# Altium footprint library ECE299_PCB.PcbLib: 24 footprints (part 1 of 2)
Each footprint in its own frame and in the unit in brackets; x right, y up, seen from the top. Pads: shape width x height; smd on the part's side, far side on the other; paste and mask are expansions set on the pad; w line width, h text height; cw(c..) or ccw(c..) is an arc to the next point about the centre after c.
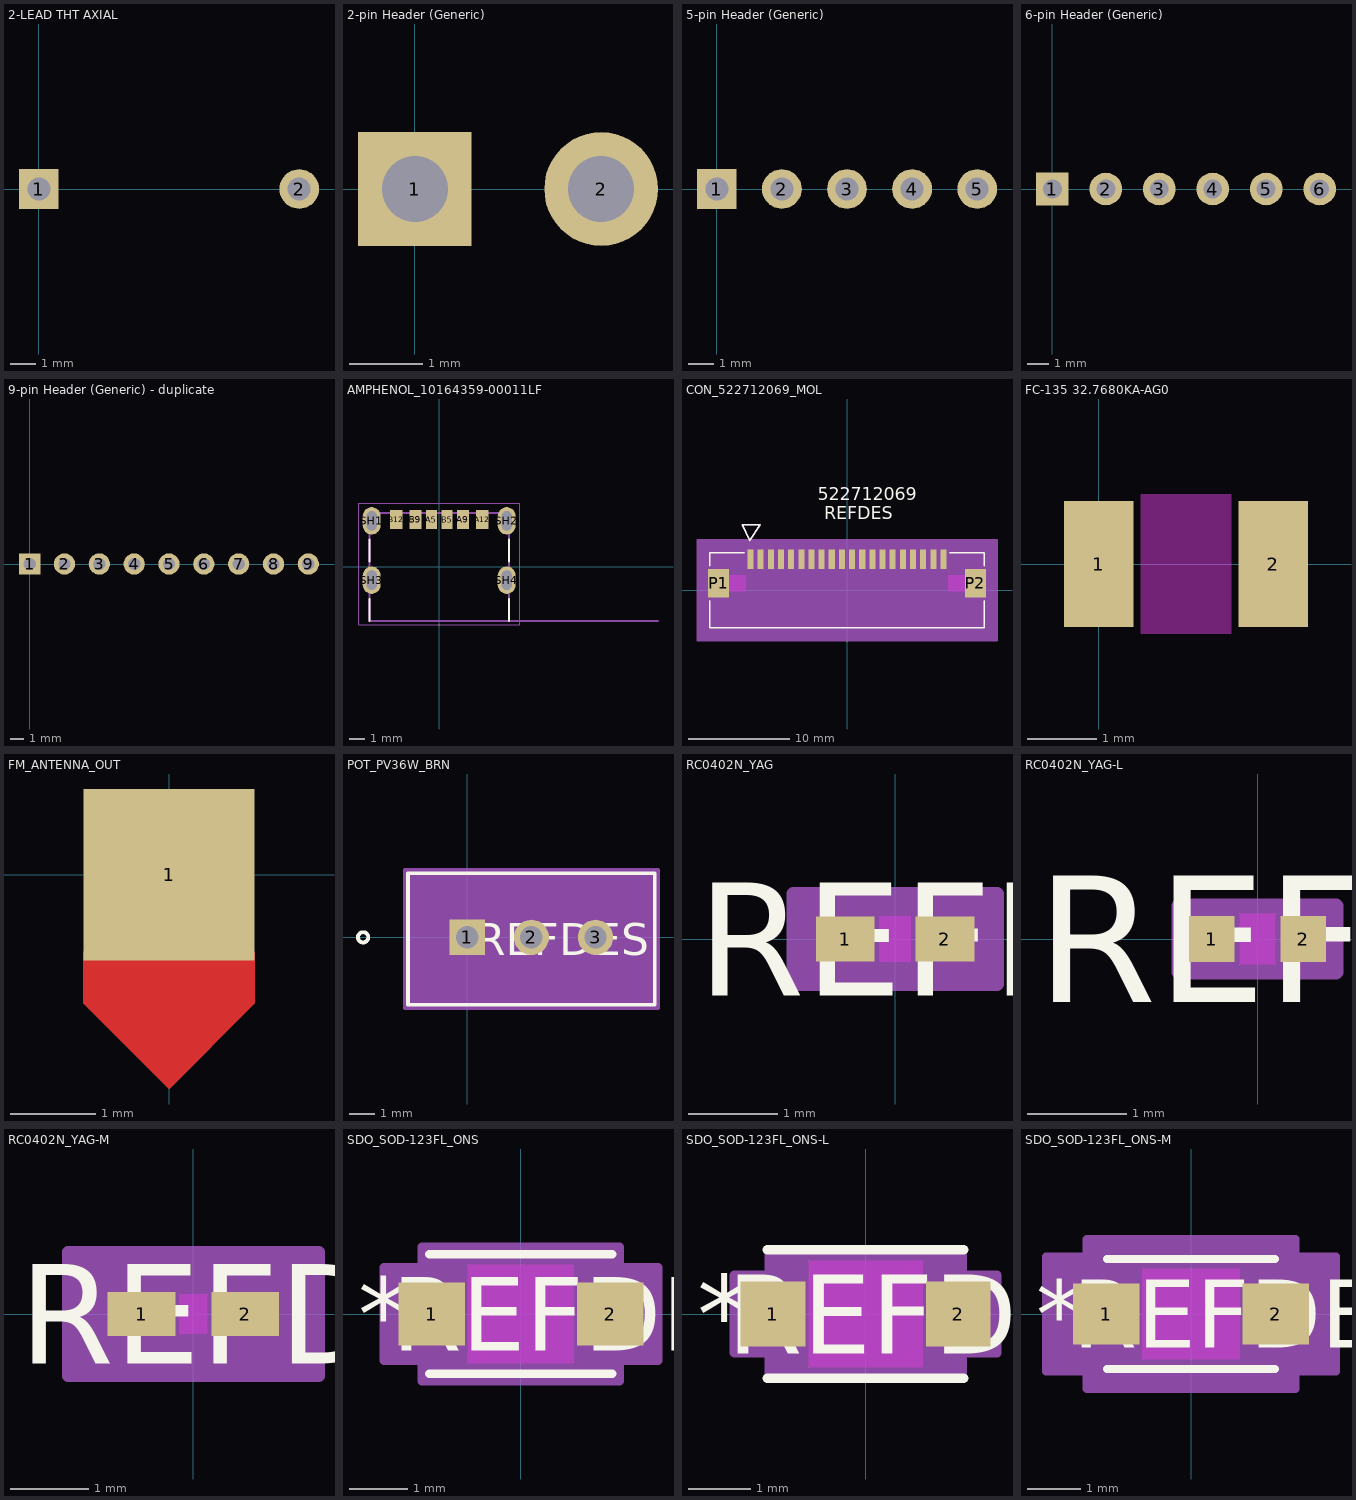
[diagram p0: the footprints below, top view; thin cyan lines are the x and y axes]

## 2-LEAD THT AXIAL [mm] "2"
pads (2):
  rect 1.55x1.55 hole 0.9: 1(0,0)
  round 1.55 hole 0.9: 2(10.16,0)

## 2-pin Header (Generic) [mm] "2 THT pads for generic headers."
pads (2):
  rect 1.55x1.55 hole 0.9: 1(0,0)
  round 1.55 hole 0.9: 2(2.54,0)

## 5-pin Header (Generic) [mm] "5 THT pads for generic headers."
pads (5):
  rect 1.55x1.55 hole 0.9: 1(0,0)
  round 1.55 hole 0.9: 2(2.54,0) 3(5.08,0) 4(7.62,0) 5(10.16,0)

## 6-pin Header (Generic) [mm] "6 THT pads for generic headers. Also used for SD card reader breakout board."
pads (6):
  rect 1.55x1.55 hole 0.9: 1(0,0)
  round 1.55 hole 0.9: 2(2.54,0) 3(5.08,0) 4(7.62,0) 5(10.16,0) 6(12.7,0)

## 9-pin Header (Generic) - duplicate [mm] "9 THT pads for generic headers. Also used for SD card reader breakout board."
pads (9):
  rect 1.55x1.55 hole 0.9: 1(0,0)
  round 1.55 hole 0.9: 2(2.54,0) 3(5.08,0) 4(7.62,0) 5(10.16,0) 6(12.7,0) 7(15.24,0) 8(17.78,0) 9(20.32,0)

## AMPHENOL_10164359-00011LF [mm]
height 3.26
pads (10):
  rect 0.7x1.2 smd: A5(-0.5,3.03) B5(0.5,3.03)
  rect 0.76x1.2 smd: A9(1.52,3.03) B9(-1.52,3.03)
  rect 0.8x1.2 smd: A12(2.75,3.03) B12(-2.75,3.03)
  oval 1.15x1.75 hole 0.65 slot 1.25 at 90 deg: SH1(-4.32,2.95) SH2(4.32,2.95) SH3(-4.32,-0.85) SH4(4.32,-0.85)
Top Overlay:
  lines w0.127: -4.47,-3.45 -4.47,-2.045 ; -4.47,0.345 -4.47,1.755 ; 4.47,-3.45 4.47,-2.045 ; 4.47,0.345 4.47,1.755
Mechanical 13:
  lines w0.127: 14,-3.45 4.47,-3.45 ; 4.47,-3.45 -4.47,-3.45 -4.47,3.45 4.47,3.45 4.47,-3.45
  text "PCB EDGE" at 5.5,-3.1 h1.27
Mechanical 15:
  lines w0.05: -5.145,-3.7 5.145,-3.7 5.145,4.075 -5.145,4.075 -5.145,-3.7
3D body "step_temp.STEP": height 3.26, standoff -0.9, extent -4.47,-3.45 4.47,3.45

## CON_522712069_MOL [mm]
pads (22):
  rect 0.6x1.9 smd paste+0 mask+0.076: 1(-9.5,3.05) 2(-8.5,3.05) 3(-7.5,3.05) 4(-6.5,3.05) 5(-5.5,3.05) 6(-4.5,3.05) 7(-3.5,3.05) 8(-2.5,3.05) 9(-1.5,3.05) 10(-0.5,3.05) 11(0.5,3.05) 12(1.5,3.05) 13(2.5,3.05) 14(3.5,3.05) 15(4.5,3.05) 16(5.5,3.05) 17(6.5,3.05) 18(7.5,3.05) 19(8.5,3.05) 20(9.5,3.05)
  rect 2.1x2.8 smd paste+0 mask+0.076: P1(-12.65,0.7) P2(12.65,0.7)
Top Overlay:
  lines w0.152: -13.5,-1.018 -13.5,-3.7 13.5,-3.7 13.5,-1.018 ; -13.5,2.417 -13.5,3.7 -10.117,3.7 ; 10.118,3.7 13.5,3.7 13.5,2.417 ; -10.325,6.479 -8.547,6.479 -9.563,4.904 -10.325,6.479
  text "REFDES" at -2.222,6.985 h1.27
  text "522712069" at -2.857,8.89 h1.27
Keep-Out Layer:
  region: -9.95,-0.1 -9.95,1.5 -11.6,1.5 -11.6,-0.1
  region: 9.95,-0.1 9.95,1.5 11.6,1.5 11.6,-0.1
Mechanical 13:
  lines w0.127: -13.5,-3.7 13.5,-3.7 13.5,3.7 -13.5,3.7 -13.5,-3.7 ; -10.325,6.479 -8.547,6.479 -9.563,4.904 -10.325,6.479
  text "522712069" at -2.857,8.89 h1.27
  text "RefDes2" at -2.222,6.985 h1.27
Mechanical 15:
  region: 14.77,4.97 -14.77,4.97 -14.77,-4.97 14.77,-4.97
  lines w0.127: -14.77,-4.97 -14.77,4.97 14.77,4.97 14.77,-4.97 -14.77,-4.97

## FC-135 32.7680KA-AG0 [mm]
pads (2):
  rect 1x1.8 smd paste+0 mask+0.076: 1(0,0) 2(2.5,0)
Top Layer keep-out:
  rectangle: 0.6,-1 1.9,1

## FM_ANTENNA_OUT [mm] "Intended for board-edge mounting"
pads (1):
  rect 2x2 smd paste+0 mask+0.3: 1(0,0)
Top Layer:
  region: -1,-0.9 -1,-1.5 0,-2.5 1,-1.5 1,-0.9

## POT_PV36W_BRN [mil]
pads (3):
  rect 55x55 / inner round 60 / far side rect 55x55 hole 35 paste-99999 mask+0: 1(0,0)
  round 55 / inner round 60 / far side round 55 hole 35 paste-99999 mask+0: 2(100,0) 3(200,0)
Top Overlay:
  circle w6: c-162.5,0 r8
  lines w6: -92.5,-105.12 292.5,-105.12 292.5,99.88 -92.5,99.88 -92.5,-105.12
  text "REFDES" at 12.5,-27.62 h50
Mechanical 13:
  circle w0: c-77.5,-90.12 r8
  lines w1: -87.5,-100.12 287.5,-100.12 287.5,94.88 -87.5,94.88 -87.5,-100.12
  text "RefDes2" at 12.5,-27.62 h50
Mechanical 15:
  region: 297.5,104.88 -97.5,104.88 -97.5,-110.12 297.5,-110.12
  lines w6: -97.5,-110.12 -97.5,104.88 297.5,104.88 297.5,-110.12 -97.5,-110.12
3D body "POT_PV36W_BRN.step": height 455, standoff -200, extent -87.48,-100.12 287.48,94.88

## RC0402N_YAG [mil]
pads (2):
  rect 26x20 smd paste+0 mask+0: 1(-22,0) 2(22,0)
Top Layer keep-out:
  region: -7,-8 -7,8 7,8 7,-8
Top Overlay:
  text "REFDES" at -87.5,-25 h50
Keep-Out Layer:
  region: -7,-10 -7,10 7,10 7,-10
Mechanical 13:
  lines w1: -21,-10 -21,10 ; -21,-10 21,-10 ; -21,-10 -9,-10 -9,10 -21,10 ; -21,-10 -21,10 ; -21,10 21,10 ; 21,-10 21,10 ; 21,-10 21,10 ; 21,-10 9,-10 9,10 21,10
  text "RefDes2" at -87.5,-25 h50
Mechanical 15:
  region: 45,-20 -45,-20 -45,20 45,20
  lines w6: -45,-20 45,-20 45,20 -45,20 -45,-20
3D body "RC0402N_YAG.step": height 27.99, standoff 0, extent -20.98,-10 20.98,10

## RC0402N_YAG-L [mil]
pads (2):
  rect 18x18 smd paste+0 mask+0: 1(-18,0) 2(18,0)
Top Layer keep-out:
  region: -7,-8 -7,8 7,8 7,-8
Top Overlay:
  text "REFDES" at -87.5,-25 h50
Keep-Out Layer:
  region: -7,-10 -7,10 7,10 7,-10
Mechanical 13:
  lines w1: -21,-10 -21,10 ; -21,-10 21,-10 ; -21,-10 -9,-10 -9,10 -21,10 ; -21,-10 -21,10 ; -21,10 21,10 ; 21,-10 21,10 ; 21,-10 21,10 ; 21,-10 9,-10 9,10 21,10
  text "RefDes2" at -87.5,-25 h50
Mechanical 15:
  region: 31,-13 -31,-13 -31,13 31,13
  lines w6: -31,-13 31,-13 31,13 -31,13 -31,-13
3D body "RC0402N_YAG.step": height 27.99, standoff 0, extent -20.98,-10 20.98,10

## RC0402N_YAG-M [mil]
pads (2):
  rect 34x22 smd paste+0 mask+0: 1(-26,0) 2(26,0)
Top Layer keep-out:
  region: -7,-8 -7,8 7,8 7,-8
Top Overlay:
  text "REFDES" at -87.5,-25 h50
Keep-Out Layer:
  region: -7,-10 -7,10 7,10 7,-10
Mechanical 13:
  lines w1: -21,-10 -21,10 ; -21,-10 -9,-10 -9,10 -21,10 ; -21,-10 21,-10 ; -21,-10 -21,10 ; -21,10 21,10 ; 21,-10 9,-10 9,10 21,10 ; 21,-10 21,10 ; 21,-10 21,10
  text "RefDes2" at -87.5,-25 h50
Mechanical 15:
  region: 63,-31 -63,-31 -63,31 63,31
  lines w6: -63,-31 -63,31 63,31 63,-31 -63,-31
3D body "RC0402N_YAG.step": height 27.99, standoff 0, extent -20.98,-10 20.98,10

## SDO_SOD-123FL_ONS [mil]
pads (2):
  rect 45x43 smd paste+0 mask+0: 1(-60.5,0) 2(60.5,0)
Top Layer keep-out:
  region: -36,-33.5 -36,33.5 36,33.5 36,-33.5
Top Overlay:
  lines w6: -62,-40.5 62,-40.5 ; -62,40.5 62,40.5
  text "REFDES" at -87.5,-25 h50
  text "*" at -110.5,-25 h50
Keep-Out Layer:
  region: -36,-33.5 -36,33.5 36,33.5 36,-33.5
Mechanical 13:
  lines w1: -57,-17.75 -39.25,-35.5 ; -57,17.75 -39.25,35.5 ; -75,-21.5 -75,21.5 -57,21.5 -57,-21.5 -75,-21.5 ; -57,-35.5 57,-35.5 57,35.5 -57,35.5 -57,-35.5 ; 57,-21.5 57,21.5 75,21.5 75,-21.5 57,-21.5
  text "*" at -59.5,-25 h50
  text "RefDes2" at -87.5,-25 h50
Mechanical 15:
  region: -67,-31.5 -93,-31.5 -93,31.5 -67,31.5 -67,45.5 67,45.5 67,31.5 93,31.5 93,-31.5 67,-31.5 67,-45.5 -67,-45.5
  lines w6: -93,-31.5 -93,31.5 -67,31.5 -67,45.5 67,45.5 67,31.5 93,31.5 93,-31.5 67,-31.5 67,-45.5 -67,-45.5 -67,-31.5 -93,-31.5
3D body "SDO_SOD-123FL_ONS.step": height 39.25, standoff 0, extent -75,-35.51 75,35.51

## SDO_SOD-123FL_ONS-L [mil]
pads (2):
  rect 41x41 smd paste+0 mask+0: 1(-58.5,0) 2(58.5,0)
Top Layer keep-out:
  region: -36,-33.5 -36,33.5 36,33.5 36,-33.5
Top Overlay:
  lines w6: -62,-40.5 62,-40.5 ; -62,40.5 62,40.5
  text "*" at -106.5,-25 h50
  text "REFDES" at -87.5,-25 h50
Keep-Out Layer:
  region: -36,-33.5 -36,33.5 36,33.5 36,-33.5
Mechanical 13:
  lines w1: -57,-17.75 -39.25,-35.5 ; -57,17.75 -39.25,35.5 ; -75,-21.5 -57,-21.5 -57,21.5 -75,21.5 -75,-21.5 ; -57,-35.5 -57,35.5 57,35.5 57,-35.5 -57,-35.5 ; 57,-21.5 75,-21.5 75,21.5 57,21.5 57,-21.5
  text "RefDes2" at -87.5,-25 h50
  text "*" at -59.5,-25 h50
Mechanical 15:
  region: -61,-24.5 -83,-24.5 -83,24.5 -61,24.5 -61,39.5 61,39.5 61,24.5 83,24.5 83,-24.5 61,-24.5 61,-39.5 -61,-39.5
  lines w6: -83,-24.5 -61,-24.5 -61,-39.5 61,-39.5 61,-24.5 83,-24.5 83,24.5 61,24.5 61,39.5 -61,39.5 -61,24.5 -83,24.5 -83,-24.5
3D body "SDO_SOD-123FL_ONS.step": height 39.25, standoff 0, extent -75,-35.51 75,35.51

## SDO_SOD-123FL_ONS-M [mil]
pads (2):
  rect 49x45 smd paste+0 mask+0: 1(-62.5,0) 2(62.5,0)
Top Layer keep-out:
  region: -36,-33.5 -36,33.5 36,33.5 36,-33.5
Top Overlay:
  lines w6: -62,-40.5 62,-40.5 ; -62,40.5 62,40.5
  text "REFDES" at -87.5,-25 h50
  text "*" at -114.5,-25 h50
Keep-Out Layer:
  region: -36,-33.5 -36,33.5 36,33.5 36,-33.5
Mechanical 13:
  lines w1: -57,-17.75 -39.25,-35.5 ; -57,17.75 -39.25,35.5 ; -75,-21.5 -75,21.5 -57,21.5 -57,-21.5 -75,-21.5 ; -57,-35.5 57,-35.5 57,35.5 -57,35.5 -57,-35.5 ; 57,-21.5 57,21.5 75,21.5 75,-21.5 57,-21.5
  text "*" at -59.5,-25 h50
  text "RefDes2" at -87.5,-25 h50
Mechanical 15:
  region: -77,-42.5 -107,-42.5 -107,42.5 -77,42.5 -77,55.5 77,55.5 77,42.5 107,42.5 107,-42.5 77,-42.5 77,-55.5 -77,-55.5
  lines w6: -107,-42.5 -107,42.5 -77,42.5 -77,55.5 77,55.5 77,42.5 107,42.5 107,-42.5 77,-42.5 77,-55.5 -77,-55.5 -77,-42.5 -107,-42.5
3D body "SDO_SOD-123FL_ONS.step": height 39.25, standoff 0, extent -75,-35.51 75,35.51